# EAGLE library part XR-9030R4D (library exar)
R/W PREAMPLIFIER
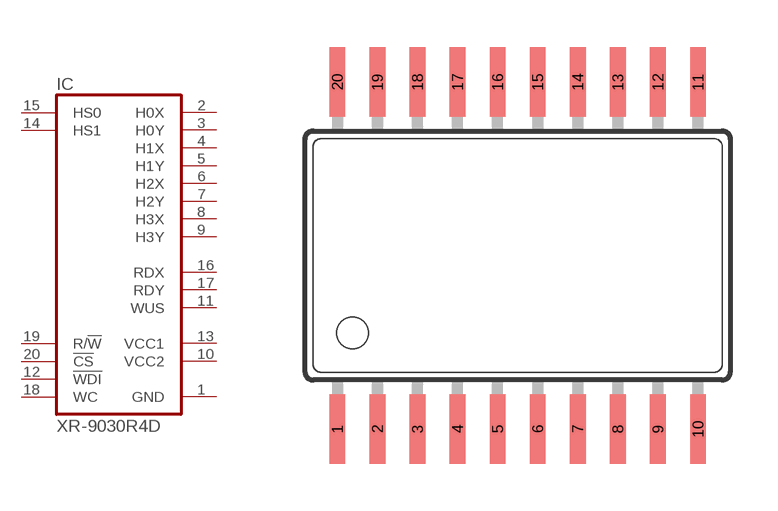
[diagram p107: symbol with the pads of SOP-20; footprint SOP-20]

Designator prefix IC

## XR-9030R4D (OC_FARNELL: unknown; OC_NEWARK: unknown)  [SOP-20]
1  GND  pwr
2  H0X
3  H0Y
4  H1X
5  H1Y
6  H2X
7  H2Y
8  H3X
9  H3Y
10  VCC2  pwr
11  WUS  out
12  !WDI  in
13  VCC1  pwr
14  HS1  in
15  HS0  in
16  RDX  out
17  RDY  out
18  WC  in
19  R/!W  in
20  !CS  in

## Footprint SOP-20 (pad centres in mm)
Small Outline Package
smd 0.5 x 2.2: 1 -5.715,-5.5; 2 -4.445,-5.5; 3 -3.175,-5.5; 4 -1.905,-5.5; 5 -0.635,-5.5; 6 0.635,-5.5; 7 1.905,-5.5; 8 3.175,-5.5; 9 4.445,-5.5; 10 5.715,-5.5; 11 5.715,5.5; 12 4.445,5.5; 13 3.175,5.5; 14 1.905,5.5; 15 0.635,5.5; 16 -0.635,5.5; 17 -1.905,5.5; 18 -3.175,5.5; 19 -4.445,5.5; 20 -5.715,5.5